# Altium footprint library 0039300100.PcbLib: 1 footprints
Each footprint in its own frame and in the unit in brackets; x right, y up, seen from the top. Pads: shape width x height; smd on the part's side, far side on the other; paste and mask are expansions set on the pad; w line width, h text height; cw(c..) or ccw(c..) is an arc to the next point about the centre after c.
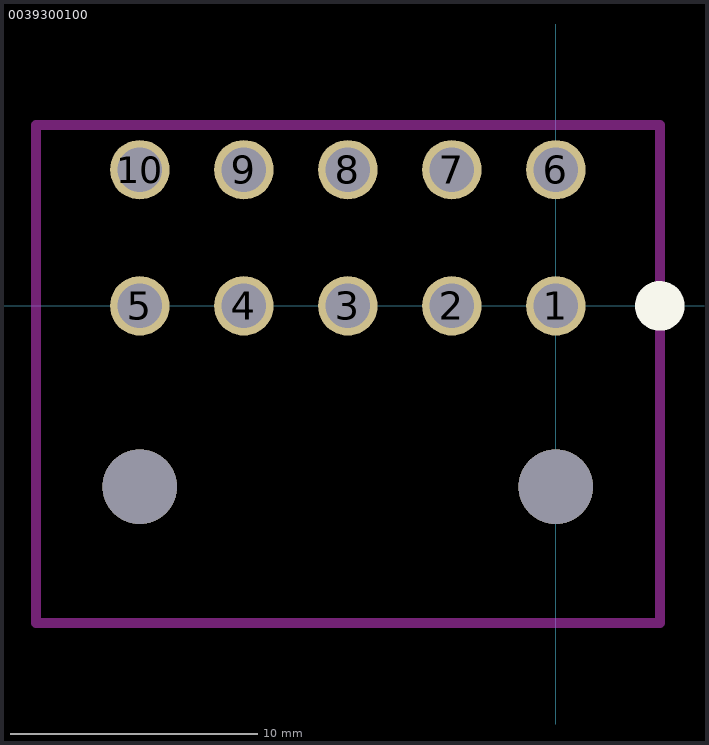
[diagram p0: the footprint, top view; thin cyan lines are the x and y axes]

## 0039300100 [mm] "Minifit Jr 10p"
pads (10):
  round 2.4 hole 1.8: 1(0,0) 2(-4.2,0) 3(-8.4,0) 4(-12.6,0) 5(-16.8,0) 6(0,5.5) 7(-4.2,5.5) 8(-8.4,5.5) 9(-12.6,5.5) 10(-16.8,5.5)
via -16.8,-7.3 diameter 3 hole 3
via 0,-7.3 diameter 3 hole 3
Top Overlay:
  circle w1: c4.2,0 r0.5
Keep-Out Layer:
  lines w0.4: -21,-12.8 -21,7.3 4.2,7.3 4.2,-12.8 -21,-12.8